# Altium schematic symbol library Mako DSP Schematic Library.SchLib: 14 symbols
Pins are listed as number, name and electrical type; pins without a type are passive.

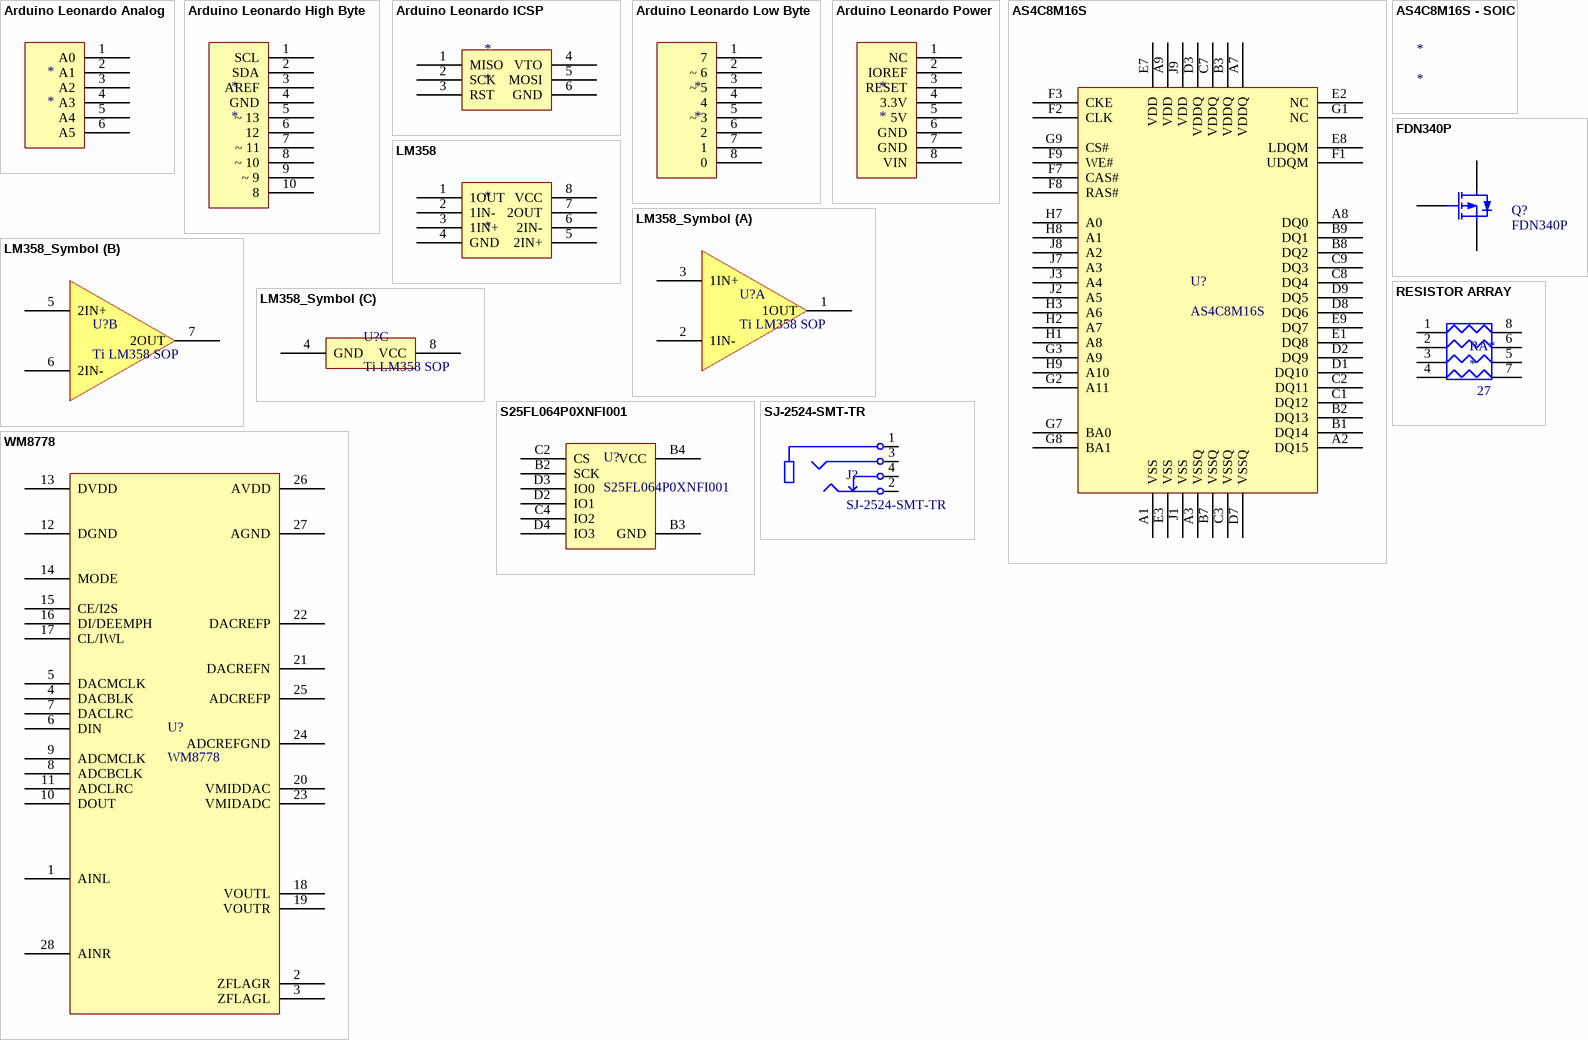
[diagram p0: symbols Arduino Leonardo Analog to WM8778]

## Arduino Leonardo Analog
designator *
footprint Arduino Leonardo Analog (Connector; Header; 6 Position)
pins: 1 A0, 2 A1, 3 A2, 4 A3, 5 A4, 6 A5

## Arduino Leonardo High Byte
designator *
footprint Arduino Leonardo High Byte
pins: 1 SCL, 2 SDA, 3 AREF, 4 GND, 5 ~ 13, 6 12, 7 ~ 11, 8 ~ 10, 9 ~ 9, 10 8

## Arduino Leonardo ICSP
designator *
footprint Arduino ICPS
pins: 1 MISO, 2 SCK, 3 RST, 4 VTO, 5 MOSI, 6 GND

## Arduino Leonardo Low Byte
designator *
footprint Arduino Leonardo Low Byte (Connector; Header; 8 Position)
pins: 1 7, 2 ~ 6, 3 ~ 5, 4, 5 ~ 3, 6 2, 7 1, 8 0

## Arduino Leonardo Power
designator *
footprint Arduino Leonardo Power (Connector; Header; 8 Position)
pins: 1 NC, 2 IOREF, 3 RESET, 4 3.3V, 5 5V, 6 GND, 7 GND, 8 VIN

## AS4C8M16S
designator U?
footprint AS4C8M16S (BGA, 54-Leads, Body 8.00x8.00mmx1.20mm, Pitch 0.80mm)
pins: A1 VSS, A2 DQ15, A3 VSSQ, A7 VDDQ, A8 DQ0, A9 VDD, B1 DQ14, B2 DQ13, B3 VDDQ, B7 VSSQ, B8 DQ2, B9 DQ1, C1 DQ12, C2 DQ11, C3 VSSQ, C7 VDDQ, C8 DQ4, C9 DQ3, D1 DQ10, D2 DQ9, D3 VDDQ, D7 VSSQ, D8 DQ6, D9 DQ5, E1 DQ8, E2 NC, E3 VSS, E7 VDD, E8 LDQM, E9 DQ7, F1 UDQM, F2 CLK, F3 CKE, F7 CAS#, F8 RAS#, F9 WE#, G1 NC, G2 A11, G3 A9, G7 BA0, G8 BA1, G9 CS#, H1 A8, H2 A7, H3 A6, H7 A0, H8 A1, H9 A10, J1 VSS, J2 A5, J3 A4, J7 A3, J8 A2, J9 VDD

## AS4C8M16S - SOIC
designator *

## FDN340P
designator Q?
P-Channel MOSFET; Published: 8-Jun-2000; LatestRevisionDate: 17-Jul-2002; LatestRevisionNote: Re-released for DXP Platform.; PackageVersion: 1995/1996; PackageReference: E3; Publisher: Altium Limited; PackageDescription: TO, Flat Index; 3 In-Line, Axial Leads; Body Dia. 4.6mm; Lead Dia. 0.5 mm (max)
simulation model NMOS (MOSFET-N)
footprint SOT23-3N (SOT23, 3-Leads, Body 2.9x1.3mm, Pitch 0.95mm, Lead Span 2.5mm, IPC Medium Density)
pins: 1 G, 2 D, 3 S

## LM358
designator *
pins: 1 1OUT, 2 1IN-, 3 1IN+, 4 GND, 5 2IN+, 6 2IN-, 7 2OUT, 8 VCC

## LM358_Symbol
designator U?, comment Ti LM358 SOP
footprint LM358 (TSOP, 8-Leads, Body 3.00x3.00mm, Pitch 0.65mm, IPC Medium Density)
part A pins: 1 1OUT, 2 1IN-, 3 1IN+
part B pins: 5 2IN+, 6 2IN-, 7 2OUT
part C pins: 4 GND, 8 VCC

## RESISTOR ARRAY
designator RA*  value 27
Resistor array
footprint 742C083 (Resistor array)
pins: 1, 2, 3, 4, 5, 6, 7, 8

## S25FL064P0XNFI001
designator U?
SPIFI Quad Flash
footprint S25FL064P0XNFI001 (BGA, 25-Leads, Body 6.00x8.00mmx0.90mm, Pitch 1.00mm)
pins: A2 NC hidden, A3 NC hidden, A4 NC hidden, A5 NC hidden, B1 NC hidden, B2 SCK, B3 GND, B4 VCC, B5 NC hidden, C1 NC hidden, C2 CS, C4 IO2, C5 NC hidden, D1 NC hidden, D2 IO1, D3 IO0, D4 IO3, D5 NC hidden, E1 NC hidden, E2 NC hidden, E3 NC hidden, E4 NC hidden, E5 NC hidden

## SJ-2524-SMT-TR
designator J?
2.5mm SMD Audio Jack
footprint SJ-2524-SMT-TR (2.5mm Stereo Jack SMD)
pins: 1 SLEEVE, 2 TIP, 3 R1, 4 TS

## WM8778
designator U?
footprint WM8778 (SOP, 28 Pin Wolfson Audio WM8778 Audio Codec)
pins: 1 AINL, 2 ZFLAGR, 3 ZFLAGL, 4 DACBLK, 5 DACMCLK, 6 DIN, 7 DACLRC, 8 ADCBCLK, 9 ADCMCLK, 10 DOUT, 11 ADCLRC, 12 DGND, 13 DVDD, 14 MODE, 15 CE/I2S, 16 DI/DEEMPH, 17 CL/IWL, 18 VOUTL, 19 VOUTR, 20 VMIDDAC, 21 DACREFN, 22 DACREFP, 23 VMIDADC, 24 ADCREFGND, 25 ADCREFP, 26 AVDD, 27 AGND, 28 AINR